# Altium schematic symbol library LM317T.SchLib: 1 symbol
Pins are listed as number, name and electrical type; pins without a type are passive.

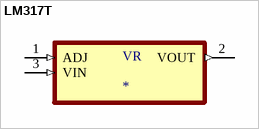
[diagram p0: symbol LM317T]

## LM317T
designator VR
1.5-A, 40-V, adjustable linear voltage regulator 3-TO-220; MF: Texas Instruments; MP: LM317T; Arrow_Electronics-Purchase-URL: https://snapeda.com/shop?store=Arrow+Electronics&id=2756289; Price: None; Value: *; Availability: Unavailable; DigiKey-Purchase-URL: https://snapeda.com/shop?store=DigiKey&id=2756289; Mouser-Purchase-URL: https://snapeda.com/shop?store=Mouser&id=2756289; SnapEDA_Link: https://www.snapeda.com/parts/LM317T/Texas%20Instruments/view-part/2756289/?ref=snap; Package: TO-220-3 Texas Instruments
footprint LM317T
pins: 1 ADJ (in), 2 VOUT (out), 3 VIN (in)